# EAGLE library part ISO7741-Q1 (library Public)
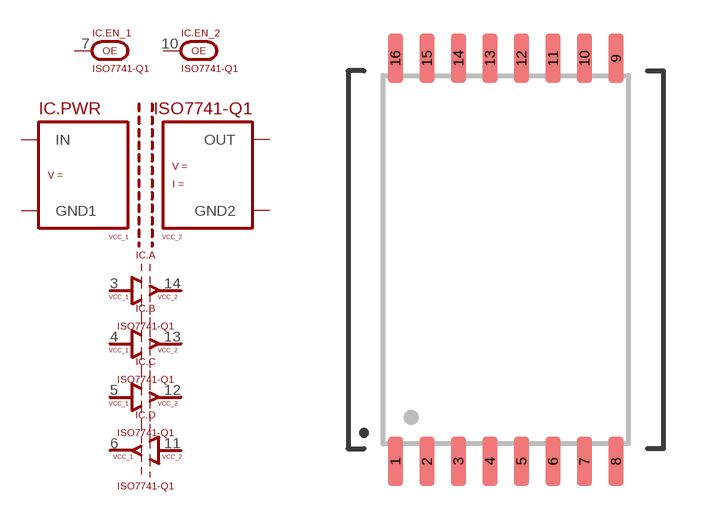
[diagram p168: symbol with the pads of SO8_WIDE++; footprint SO8_WIDE++]

Designator prefix IC; gates .PWR=DC/DC_ISOLATED .A=ISOLATOR_VCC1_TO_VCC2 .B=ISOLATOR_VCC1_TO_VCC2 .C=ISOLATOR_VCC1_TO_VCC2 .D=ISOLATOR_VCC2_TO_VCC1 .EN_1=PIN_OE .EN_2=PIN_OE

## ISO7741-Q1  [SO8_WIDE++]
1  .PWR:IN
2  .PWR:GND1
3  .A:IN
4  .B:IN
5  .C:IN
6  .D:OUT
7  .EN_1:OE
8  .PWR:GND1
9  .PWR:GND2
10  .EN_2:OE
11  .D:IN
12  .C:OUT
13  .B:OUT
14  .A:OUT
15  .PWR:GND2
16  .PWR:OUT

## Footprint SO8_WIDE++ (pad centres in mm)
smd 0.6 x 2: 1 -4.445,-8.125; 2 -3.175,-8.125; 3 -1.905,-8.125; 4 -0.635,-8.125; 5 0.635,-8.125; 6 1.905,-8.125; 7 3.175,-8.125; 8 4.445,-8.125; 9 4.445,8.125; 10 3.175,8.125; 11 1.905,8.125; 12 0.635,8.125; 13 -0.635,8.125; 14 -1.905,8.125; 15 -3.175,8.125; 16 -4.445,8.125